# Altium integrated library Linear Technology Power Management LED Driver ICs.IntLib: 490 symbols (part 7 of 48)
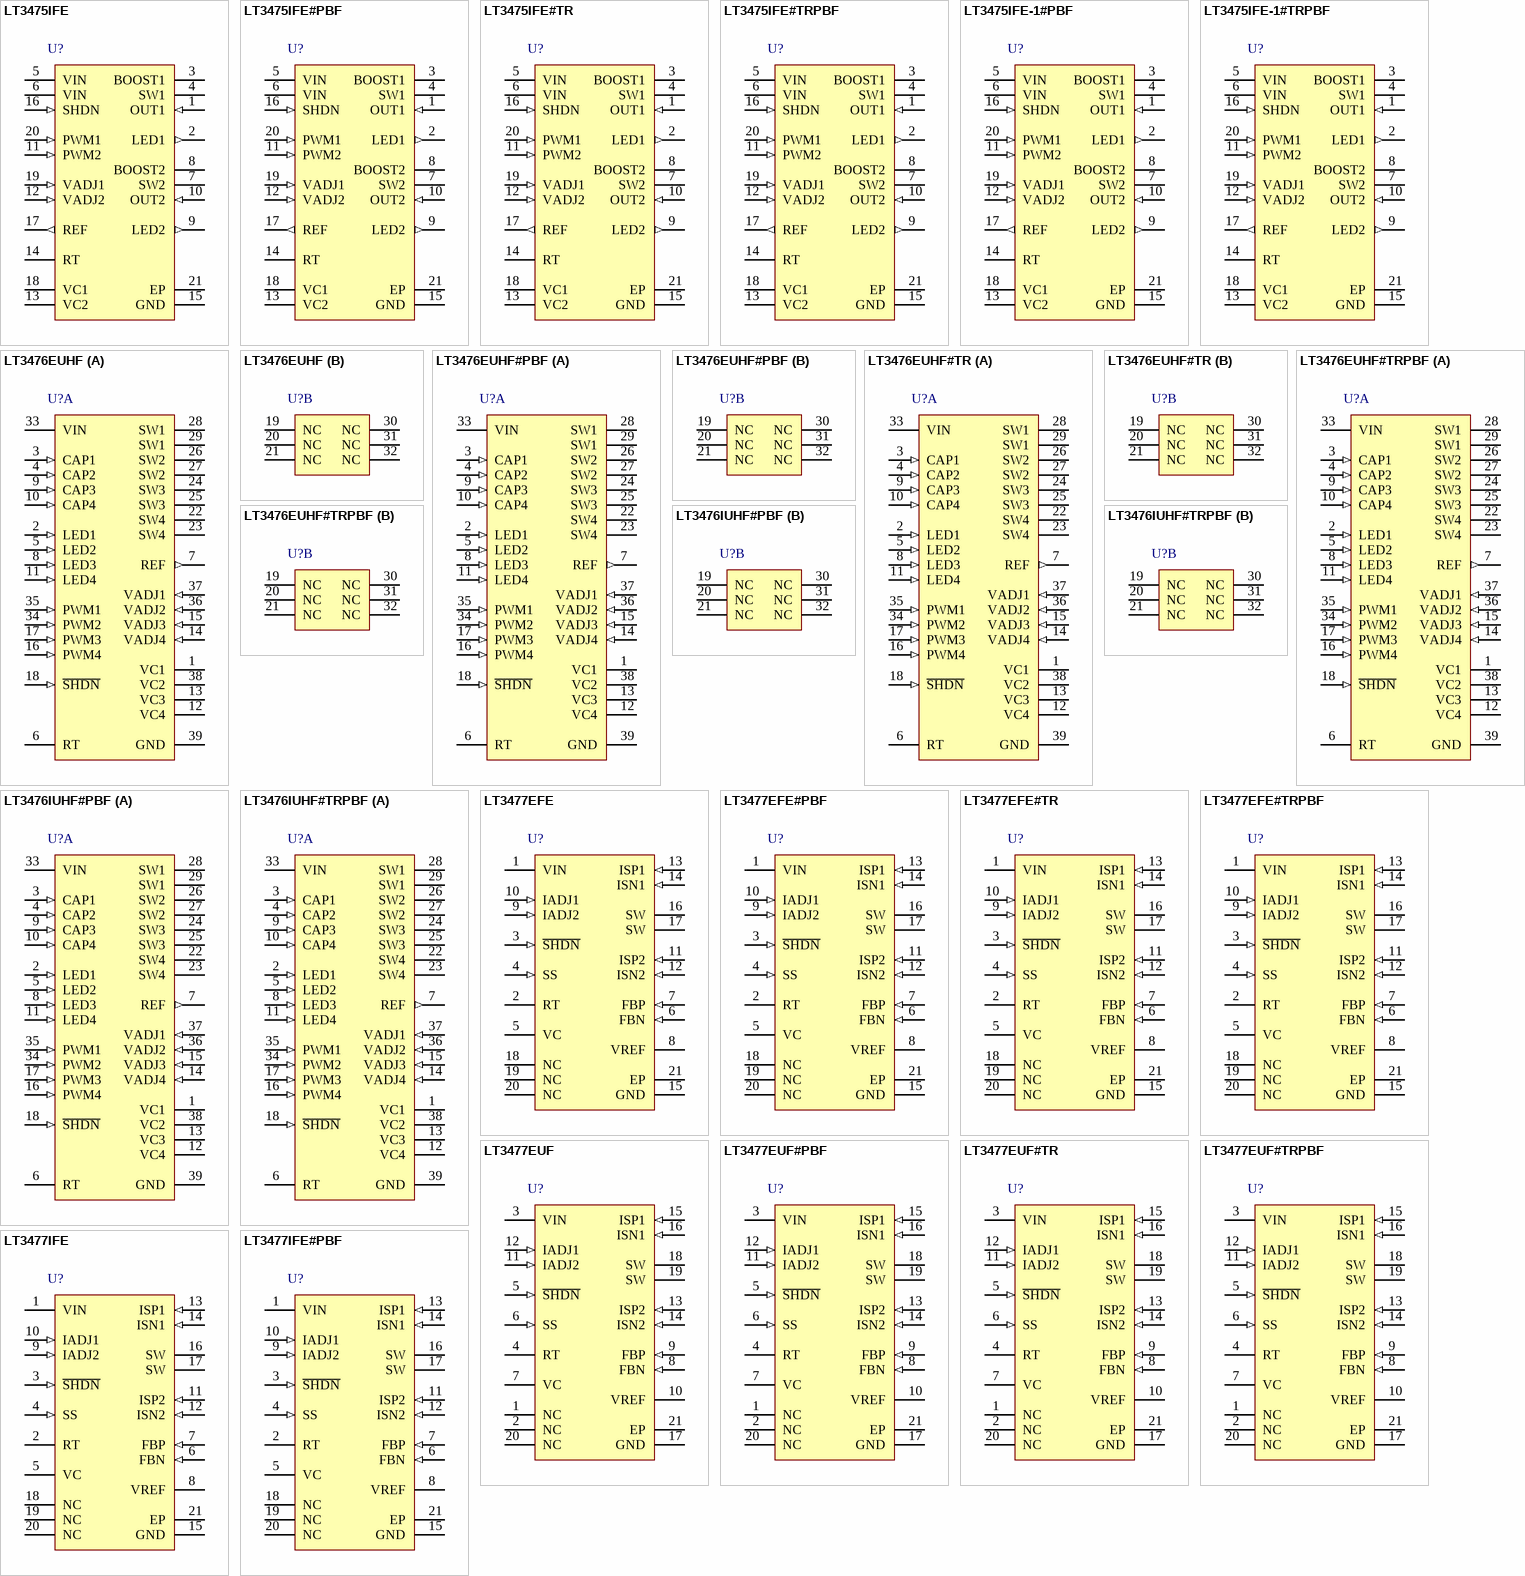
[diagram p26: symbols LT3475IFE to LT3477IFE#PBF]

## LT3477EFE#PBF
designator U?
3 A, DC/DC Converter with Dual Rail-to-Rail Current Sense, 2.3 to 25 V Vin, 40 V Vout MAX, 20-pin SOP (FE-20-EPV-CB), -40 to 85 degC, Pb-Free; Manufacturer: Linear Technology; PartNumber: LT3477EFE#PBF; Topology: Buck, Boost, Buck-Boost; Vin Min(V): 2.3; DatasheetVersion: Rev. C; PackageVersion: Rev. I, 05/2011; PackageReference: FE-20; PackageDescription: 20-Pin Plastic TSSOP, Body 6.5 x 4.4 mm, Pitch 0.65 mm; Supplier 1: Digi-Key; Supplier Part Number 1: LT3477EFE#PBF-ND; Supplier 2: Newark; Supplier Part Number 2: 57M8310; RoHS: TRUE; Mounting Technology: Surface Mount; ComponentLink1Description: Manufacturer URL; ComponentLink1URL: http://www.linear.com/; ComponentLink2Description: Datasheet; ComponentLink2URL: http://cds.linear.com/docs/en/datasheet/3477fc.pdf; ComponentLink3Description: Package Specification; ComponentLink3URL: http://cds.linear.com/docs/en/packaging/05081663__J_FE20(CB).pdf
footprint LT-FE-20-EPV-CB_N (SOP, 20-Leads, Body 6.6x4.5mm, Pitch 0.65mm, Thermal Pad 3.86x2.74mm, IPC Medium Density)
footprint LT-FE-20-EPV-CB_L (SOP, 20-Leads, Body 6.6x4.5mm, Pitch 0.65mm, Thermal Pad 3.86x2.74mm, IPC High Density)
footprint LT-FE-20-EPV-CB_M (SOP, 20-Leads, Body 6.6x4.5mm, Pitch 0.65mm, Thermal Pad 3.86x2.74mm, IPC Low Density)
pins: 1 VIN (power) "Input Supply. Must be locally bypassed. Powers the internal control circuitry.", 2 RT "Timing Resistor Pin. Adjusts the switching frequency. Connect a 17.2k resistor between RT and GND for a 1MHz switching frequency. Do not leave this pin open. See Table 4 for additional RT values and switching frequencies.", 3 ~{SHDN} (in) "Shutdown. Tie to 2V or greater to enable the device. Tie below 0.3V to turn off the device", 4 SS (in) "Soft-Start. Place a soft-start capacitor here. Leave floating if not in use.", 5 VC "Compensation Pin for Error Amplifier. Connect a series RC from this pin to GND. Typical values are 1kohm and 4.7nF.", 6 FBN (in) "The Inverting Input to the Error Amplifier. Connect resistive divider tap here for positive output voltage.", 7 FBP (in) "The Noninverting Input to the Error Amplifier. Connect resistive divider tap here for negative output voltage", 8 VREF "Bandgap Voltage Reference. Internally set to 1.235V. Connect this pin to FBP if generating a positive output or to an external resistor divider if generating a negative voltage. This pin can provide up  to 100uA of current (See Datasheet)", 9 IADJ2 (in) "Second Current Sense Adjustment. Setting IADJ2 to be less than 625mV leads to adjustment of the sensed voltage of the second current sense amplifier linearly. If IADJ2 is tied to higher than 650mV, the default current sense (See Datasheet)", 10 IADJ1 (in) "First Current Sense Adjustment. Setting IADJ1 to be less than 625mV leads to adjustment of the sensed voltage of the first current sense amplifier linearly. If IADJ1 is tied to higher than 650mV, the default current sense (See Datasheet)", 11 ISP2 (in) "Second Current Sense (+) Pin. The noninverting input to the second current sense amplifier. Connect to ISN2 if not used.", 12 ISN2 (in) "Second Current Sense (-) Pin. The inverting input to the second current sense amplifier. Connect to ISP2 if not used.", 13 ISP1 (in) "First Current Sense (+) Pin. The noninverting input to the first current sense amplifier. Connect to ISN1 if not used.", 14 ISN1 (in) "First Current Sense (-) Pin. The inverting input to the first current sense amplifier. Connect to ISP1 if not used.", 15 GND (power) "Ground. Tie directly to local ground plane.", 16 SW (power) "Switch Pins. Collector of the internal NPN power switch. Connect the inductor and diode here and minimize the metal trace area connected to this pin to minimize electromagnetic interference.", 17 SW (power) "Switch Pins. Collector of the internal NPN power switch. Connect the inductor and diode here and minimize the metal trace area connected to this pin to minimize electromagnetic interference.", 18 NC "No Connect Pin. Okay to connect to ground or VIN, or to float.", 19 NC "No Connect Pin. Okay to connect to ground or VIN, or to float.", 20 NC "No Connect Pin. Okay to connect to ground or VIN, or to float.", 21 EP (power) "Power Ground. Must be soldered to PCB ground for electrical contact and rated thermal performance."

## LT3477EFE#TR
designator U?
3 A, DC/DC Converter with Dual Rail-to-Rail Current Sense, 2.3 to 25 V Vin, 40 V Vout MAX, 20-pin SOP (FE-20-EPV-CB), -40 to 85 degC, Tape and Reel; Manufacturer: Linear Technology; PartNumber: LT3477EFE#TR; Topology: Buck, Boost, Buck-Boost; Vin Min(V): 2.3; DatasheetVersion: Rev. C; PackageVersion: Rev. I, 05/2011; PackageReference: FE-20; PackageDescription: 20-Pin Plastic TSSOP, Body 6.5 x 4.4 mm, Pitch 0.65 mm; Packing: Tape and Reel; RoHS: FALSE; Mounting Technology: Surface Mount; ComponentLink1Description: Manufacturer URL; ComponentLink1URL: http://www.linear.com/; ComponentLink2Description: Datasheet; ComponentLink2URL: http://cds.linear.com/docs/en/datasheet/3477fc.pdf; ComponentLink3Description: Package Specification; ComponentLink3URL: http://cds.linear.com/docs/en/packaging/05081663__J_FE20(CB).pdf
footprint LT-FE-20-EPV-CB_N (SOP, 20-Leads, Body 6.6x4.5mm, Pitch 0.65mm, Thermal Pad 3.86x2.74mm, IPC Medium Density)
footprint LT-FE-20-EPV-CB_L (SOP, 20-Leads, Body 6.6x4.5mm, Pitch 0.65mm, Thermal Pad 3.86x2.74mm, IPC High Density)
footprint LT-FE-20-EPV-CB_M (SOP, 20-Leads, Body 6.6x4.5mm, Pitch 0.65mm, Thermal Pad 3.86x2.74mm, IPC Low Density)
pins: 1 VIN (power) "Input Supply. Must be locally bypassed. Powers the internal control circuitry.", 2 RT "Timing Resistor Pin. Adjusts the switching frequency. Connect a 17.2k resistor between RT and GND for a 1MHz switching frequency. Do not leave this pin open. See Table 4 for additional RT values and switching frequencies.", 3 ~{SHDN} (in) "Shutdown. Tie to 2V or greater to enable the device. Tie below 0.3V to turn off the device", 4 SS (in) "Soft-Start. Place a soft-start capacitor here. Leave floating if not in use.", 5 VC "Compensation Pin for Error Amplifier. Connect a series RC from this pin to GND. Typical values are 1kohm and 4.7nF.", 6 FBN (in) "The Inverting Input to the Error Amplifier. Connect resistive divider tap here for positive output voltage.", 7 FBP (in) "The Noninverting Input to the Error Amplifier. Connect resistive divider tap here for negative output voltage", 8 VREF "Bandgap Voltage Reference. Internally set to 1.235V. Connect this pin to FBP if generating a positive output or to an external resistor divider if generating a negative voltage. This pin can provide up  to 100uA of current (See Datasheet)", 9 IADJ2 (in) "Second Current Sense Adjustment. Setting IADJ2 to be less than 625mV leads to adjustment of the sensed voltage of the second current sense amplifier linearly. If IADJ2 is tied to higher than 650mV, the default current sense (See Datasheet)", 10 IADJ1 (in) "First Current Sense Adjustment. Setting IADJ1 to be less than 625mV leads to adjustment of the sensed voltage of the first current sense amplifier linearly. If IADJ1 is tied to higher than 650mV, the default current sense (See Datasheet)", 11 ISP2 (in) "Second Current Sense (+) Pin. The noninverting input to the second current sense amplifier. Connect to ISN2 if not used.", 12 ISN2 (in) "Second Current Sense (-) Pin. The inverting input to the second current sense amplifier. Connect to ISP2 if not used.", 13 ISP1 (in) "First Current Sense (+) Pin. The noninverting input to the first current sense amplifier. Connect to ISN1 if not used.", 14 ISN1 (in) "First Current Sense (-) Pin. The inverting input to the first current sense amplifier. Connect to ISP1 if not used.", 15 GND (power) "Ground. Tie directly to local ground plane.", 16 SW (power) "Switch Pins. Collector of the internal NPN power switch. Connect the inductor and diode here and minimize the metal trace area connected to this pin to minimize electromagnetic interference.", 17 SW (power) "Switch Pins. Collector of the internal NPN power switch. Connect the inductor and diode here and minimize the metal trace area connected to this pin to minimize electromagnetic interference.", 18 NC "No Connect Pin. Okay to connect to ground or VIN, or to float.", 19 NC "No Connect Pin. Okay to connect to ground or VIN, or to float.", 20 NC "No Connect Pin. Okay to connect to ground or VIN, or to float.", 21 EP (power) "Power Ground. Must be soldered to PCB ground for electrical contact and rated thermal performance."

## LT3477EFE#TRPBF
designator U?
3 A, DC/DC Converter with Dual Rail-to-Rail Current Sense, 2.3 to 25 V Vin, 40 V Vout MAX, 20-pin SOP (FE-20-EPV-CB), -40 to 85 degC, Pb-Free, Tape and Reel; Manufacturer: Linear Technology; PartNumber: LT3477EFE#TRPBF; Topology: Buck, Boost, Buck-Boost; Vin Min(V): 2.3; DatasheetVersion: Rev. C; PackageVersion: Rev. I, 05/2011; PackageReference: FE-20; PackageDescription: 20-Pin Plastic TSSOP, Body 6.5 x 4.4 mm, Pitch 0.65 mm; Supplier 1: Digi-Key; Supplier Part Number 1: LT3477EFE#TRPBF-ND; Supplier 2: Newark; Supplier Part Number 2: 57M8312; Packing: Tape and Reel; RoHS: TRUE; Mounting Technology: Surface Mount; ComponentLink1Description: Manufacturer URL; ComponentLink1URL: http://www.linear.com/; ComponentLink2Description: Datasheet; ComponentLink2URL: http://cds.linear.com/docs/en/datasheet/3477fc.pdf; ComponentLink3Description: Package Specification; ComponentLink3URL: http://cds.linear.com/docs/en/packaging/05081663__J_FE20(CB).pdf
footprint LT-FE-20-EPV-CB_N (SOP, 20-Leads, Body 6.6x4.5mm, Pitch 0.65mm, Thermal Pad 3.86x2.74mm, IPC Medium Density)
footprint LT-FE-20-EPV-CB_L (SOP, 20-Leads, Body 6.6x4.5mm, Pitch 0.65mm, Thermal Pad 3.86x2.74mm, IPC High Density)
footprint LT-FE-20-EPV-CB_M (SOP, 20-Leads, Body 6.6x4.5mm, Pitch 0.65mm, Thermal Pad 3.86x2.74mm, IPC Low Density)
pins: 1 VIN (power) "Input Supply. Must be locally bypassed. Powers the internal control circuitry.", 2 RT "Timing Resistor Pin. Adjusts the switching frequency. Connect a 17.2k resistor between RT and GND for a 1MHz switching frequency. Do not leave this pin open. See Table 4 for additional RT values and switching frequencies.", 3 ~{SHDN} (in) "Shutdown. Tie to 2V or greater to enable the device. Tie below 0.3V to turn off the device", 4 SS (in) "Soft-Start. Place a soft-start capacitor here. Leave floating if not in use.", 5 VC "Compensation Pin for Error Amplifier. Connect a series RC from this pin to GND. Typical values are 1kohm and 4.7nF.", 6 FBN (in) "The Inverting Input to the Error Amplifier. Connect resistive divider tap here for positive output voltage.", 7 FBP (in) "The Noninverting Input to the Error Amplifier. Connect resistive divider tap here for negative output voltage", 8 VREF "Bandgap Voltage Reference. Internally set to 1.235V. Connect this pin to FBP if generating a positive output or to an external resistor divider if generating a negative voltage. This pin can provide up  to 100uA of current (See Datasheet)", 9 IADJ2 (in) "Second Current Sense Adjustment. Setting IADJ2 to be less than 625mV leads to adjustment of the sensed voltage of the second current sense amplifier linearly. If IADJ2 is tied to higher than 650mV, the default current sense (See Datasheet)", 10 IADJ1 (in) "First Current Sense Adjustment. Setting IADJ1 to be less than 625mV leads to adjustment of the sensed voltage of the first current sense amplifier linearly. If IADJ1 is tied to higher than 650mV, the default current sense (See Datasheet)", 11 ISP2 (in) "Second Current Sense (+) Pin. The noninverting input to the second current sense amplifier. Connect to ISN2 if not used.", 12 ISN2 (in) "Second Current Sense (-) Pin. The inverting input to the second current sense amplifier. Connect to ISP2 if not used.", 13 ISP1 (in) "First Current Sense (+) Pin. The noninverting input to the first current sense amplifier. Connect to ISN1 if not used.", 14 ISN1 (in) "First Current Sense (-) Pin. The inverting input to the first current sense amplifier. Connect to ISP1 if not used.", 15 GND (power) "Ground. Tie directly to local ground plane.", 16 SW (power) "Switch Pins. Collector of the internal NPN power switch. Connect the inductor and diode here and minimize the metal trace area connected to this pin to minimize electromagnetic interference.", 17 SW (power) "Switch Pins. Collector of the internal NPN power switch. Connect the inductor and diode here and minimize the metal trace area connected to this pin to minimize electromagnetic interference.", 18 NC "No Connect Pin. Okay to connect to ground or VIN, or to float.", 19 NC "No Connect Pin. Okay to connect to ground or VIN, or to float.", 20 NC "No Connect Pin. Okay to connect to ground or VIN, or to float.", 21 EP (power) "Power Ground. Must be soldered to PCB ground for electrical contact and rated thermal performance."

## LT3477EUF
designator U?
3 A, DC/DC Converter with Dual Rail-to-Rail Current Sense, 2.3 to 25 V Vin, 40 V Vout MAX, 20-pin QFN (UF20), -40 to 85 degC; Manufacturer: Linear Technology; PartNumber: LT3477EUF; Topology: Buck, Boost, Buck-Boost; Vin Min(V): 2.3; DatasheetVersion: Rev. C; PackageVersion: Rev. A, 10/2010; PackageReference: UF20; PackageDescription: 20-Pin Plastic QFN, Body 4 x 4 mm, Pitch 0.5 mm; RoHS: FALSE; Mounting Technology: Surface Mount; Code_JEDEC: MO-220; ComponentLink1Description: Manufacturer URL; ComponentLink1URL: http://www.linear.com/; ComponentLink2Description: Datasheet; ComponentLink2URL: http://cds.linear.com/docs/en/datasheet/3477fc.pdf; ComponentLink3Description: Package Specification; ComponentLink3URL: http://cds.linear.com/docs/en/packaging/QFN_20_05-08-1710.pdf
footprint LT-UF-20_N (QFN, 20-Leads, Body 4.1x4.1mm, Pitch 0.5mm, Thermal Pad 2.45x2.45mm, IPC Medium Density)
footprint LT-UF-20_L (QFN, 20-Leads, Body 4.1x4.1mm, Pitch 0.5mm, Thermal Pad 2.45x2.45mm, IPC High Density)
footprint LT-UF-20_M (QFN, 20-Leads, Body 4.1x4.1mm, Pitch 0.5mm, Thermal Pad 2.45x2.45mm, IPC Low Density)
pins: 1 NC "No Connect Pin. Okay to connect to ground or VIN, or to float.", 2 NC "No Connect Pin. Okay to connect to ground or VIN, or to float.", 3 VIN (power) "Input Supply. Must be locally bypassed. Powers the internal control circuitry.", 4 RT "Timing Resistor Pin. Adjusts the switching frequency. Connect a 17.2k resistor between RT and GND for a 1MHz switching frequency. Do not leave this pin open. See Table 4 for additional RT values and switching frequencies.", 5 ~{SHDN} (in) "Shutdown. Tie to 2V or greater to enable the device. Tie below 0.3V to turn off the device", 6 SS (in) "Soft-Start. Place a soft-start capacitor here. Leave floating if not in use.", 7 VC "Compensation Pin for Error Amplifier. Connect a series RC from this pin to GND. Typical values are 1kohm and 4.7nF.", 8 FBN (in) "The Inverting Input to the Error Amplifier. Connect resistive divider tap here for positive output voltage.", 9 FBP (in) "The Noninverting Input to the Error Amplifier. Connect resistive divider tap here for negative output voltage", 10 VREF "Bandgap Voltage Reference. Internally set to 1.235V. Connect this pin to FBP if generating a positive output or to an external resistor divider if generating a negative voltage. This pin can provide up  to 100uA of current (See Datasheet)", 11 IADJ2 (in) "Second Current Sense Adjustment. Setting IADJ2 to be less than 625mV leads to adjustment of the sensed voltage of the second current sense amplifier linearly. If IADJ2 is tied to higher than 650mV, the default current sense (See Datasheet)", 12 IADJ1 (in) "First Current Sense Adjustment. Setting IADJ1 to be less than 625mV leads to adjustment of the sensed voltage of the first current sense amplifier linearly. If IADJ1 is tied to higher than 650mV, the default current sense (See Datasheet)", 13 ISP2 (in) "Second Current Sense (+) Pin. The noninverting input to the second current sense amplifier. Connect to ISN2 if not used.", 14 ISN2 (in) "Second Current Sense (-) Pin. The inverting input to the second current sense amplifier. Connect to ISP2 if not used.", 15 ISP1 (in) "First Current Sense (+) Pin. The noninverting input to the first current sense amplifier. Connect to ISN1 if not used.", 16 ISN1 (in) "First Current Sense (-) Pin. The inverting input to the first current sense amplifier. Connect to ISP1 if not used.", 17 GND (power) "Ground. Tie directly to local ground plane.", 18 SW (power) "Switch Pins. Collector of the internal NPN power switch. Connect the inductor and diode here and minimize the metal trace area connected to this pin to minimize electromagnetic interference.", 19 SW (power) "Switch Pins. Collector of the internal NPN power switch. Connect the inductor and diode here and minimize the metal trace area connected to this pin to minimize electromagnetic interference.", 20 NC "No Connect Pin. Okay to connect to ground or VIN, or to float.", 21 EP (power) "Power Ground. Must be soldered to PCB ground for electrical contact and rated thermal performance."

## LT3477EUF#PBF
designator U?
3 A, DC/DC Converter with Dual Rail-to-Rail Current Sense, 2.3 to 25 V Vin, 40 V Vout MAX, 20-pin QFN (UF20), -40 to 85 degC, Pb-Free; Manufacturer: Linear Technology; PartNumber: LT3477EUF#PBF; Topology: Buck, Boost, Buck-Boost; Vin Min(V): 2.3; DatasheetVersion: Rev. C; PackageVersion: Rev. A, 10/2010; PackageReference: UF20; PackageDescription: 20-Pin Plastic QFN, Body 4 x 4 mm, Pitch 0.5 mm; Supplier 1: Digi-Key; Supplier Part Number 1: LT3477EUF#PBF-ND; Supplier 2: Farnell; Supplier Part Number 2: 2294906; Supplier 3: Newark; Supplier Part Number 3: 57M8314; RoHS: TRUE; Mounting Technology: Surface Mount; Code_JEDEC: MO-220; ComponentLink1Description: Manufacturer URL; ComponentLink1URL: http://www.linear.com/; ComponentLink2Description: Datasheet; ComponentLink2URL: http://cds.linear.com/docs/en/datasheet/3477fc.pdf; ComponentLink3Description: Package Specification; ComponentLink3URL: http://cds.linear.com/docs/en/packaging/QFN_20_05-08-1710.pdf
footprint LT-UF-20_N (QFN, 20-Leads, Body 4.1x4.1mm, Pitch 0.5mm, Thermal Pad 2.45x2.45mm, IPC Medium Density)
footprint LT-UF-20_L (QFN, 20-Leads, Body 4.1x4.1mm, Pitch 0.5mm, Thermal Pad 2.45x2.45mm, IPC High Density)
footprint LT-UF-20_M (QFN, 20-Leads, Body 4.1x4.1mm, Pitch 0.5mm, Thermal Pad 2.45x2.45mm, IPC Low Density)
pins: 1 NC "No Connect Pin. Okay to connect to ground or VIN, or to float.", 2 NC "No Connect Pin. Okay to connect to ground or VIN, or to float.", 3 VIN (power) "Input Supply. Must be locally bypassed. Powers the internal control circuitry.", 4 RT "Timing Resistor Pin. Adjusts the switching frequency. Connect a 17.2k resistor between RT and GND for a 1MHz switching frequency. Do not leave this pin open. See Table 4 for additional RT values and switching frequencies.", 5 ~{SHDN} (in) "Shutdown. Tie to 2V or greater to enable the device. Tie below 0.3V to turn off the device", 6 SS (in) "Soft-Start. Place a soft-start capacitor here. Leave floating if not in use.", 7 VC "Compensation Pin for Error Amplifier. Connect a series RC from this pin to GND. Typical values are 1kohm and 4.7nF.", 8 FBN (in) "The Inverting Input to the Error Amplifier. Connect resistive divider tap here for positive output voltage.", 9 FBP (in) "The Noninverting Input to the Error Amplifier. Connect resistive divider tap here for negative output voltage", 10 VREF "Bandgap Voltage Reference. Internally set to 1.235V. Connect this pin to FBP if generating a positive output or to an external resistor divider if generating a negative voltage. This pin can provide up  to 100uA of current (See Datasheet)", 11 IADJ2 (in) "Second Current Sense Adjustment. Setting IADJ2 to be less than 625mV leads to adjustment of the sensed voltage of the second current sense amplifier linearly. If IADJ2 is tied to higher than 650mV, the default current sense (See Datasheet)", 12 IADJ1 (in) "First Current Sense Adjustment. Setting IADJ1 to be less than 625mV leads to adjustment of the sensed voltage of the first current sense amplifier linearly. If IADJ1 is tied to higher than 650mV, the default current sense (See Datasheet)", 13 ISP2 (in) "Second Current Sense (+) Pin. The noninverting input to the second current sense amplifier. Connect to ISN2 if not used.", 14 ISN2 (in) "Second Current Sense (-) Pin. The inverting input to the second current sense amplifier. Connect to ISP2 if not used.", 15 ISP1 (in) "First Current Sense (+) Pin. The noninverting input to the first current sense amplifier. Connect to ISN1 if not used.", 16 ISN1 (in) "First Current Sense (-) Pin. The inverting input to the first current sense amplifier. Connect to ISP1 if not used.", 17 GND (power) "Ground. Tie directly to local ground plane.", 18 SW (power) "Switch Pins. Collector of the internal NPN power switch. Connect the inductor and diode here and minimize the metal trace area connected to this pin to minimize electromagnetic interference.", 19 SW (power) "Switch Pins. Collector of the internal NPN power switch. Connect the inductor and diode here and minimize the metal trace area connected to this pin to minimize electromagnetic interference.", 20 NC "No Connect Pin. Okay to connect to ground or VIN, or to float.", 21 EP (power) "Power Ground. Must be soldered to PCB ground for electrical contact and rated thermal performance."

## LT3477EUF#TR
designator U?
3 A, DC/DC Converter with Dual Rail-to-Rail Current Sense, 2.3 to 25 V Vin, 40 V Vout MAX, 20-pin QFN (UF20), -40 to 85 degC, Tape and Reel; Manufacturer: Linear Technology; PartNumber: LT3477EUF#TR; Topology: Buck, Boost, Buck-Boost; Vin Min(V): 2.3; DatasheetVersion: Rev. C; PackageVersion: Rev. A, 10/2010; PackageReference: UF20; PackageDescription: 20-Pin Plastic QFN, Body 4 x 4 mm, Pitch 0.5 mm; Packing: Tape and Reel; RoHS: FALSE; Mounting Technology: Surface Mount; Code_JEDEC: MO-220; ComponentLink1Description: Manufacturer URL; ComponentLink1URL: http://www.linear.com/; ComponentLink2Description: Datasheet; ComponentLink2URL: http://cds.linear.com/docs/en/datasheet/3477fc.pdf; ComponentLink3Description: Package Specification; ComponentLink3URL: http://cds.linear.com/docs/en/packaging/QFN_20_05-08-1710.pdf
footprint LT-UF-20_N (QFN, 20-Leads, Body 4.1x4.1mm, Pitch 0.5mm, Thermal Pad 2.45x2.45mm, IPC Medium Density)
footprint LT-UF-20_L (QFN, 20-Leads, Body 4.1x4.1mm, Pitch 0.5mm, Thermal Pad 2.45x2.45mm, IPC High Density)
footprint LT-UF-20_M (QFN, 20-Leads, Body 4.1x4.1mm, Pitch 0.5mm, Thermal Pad 2.45x2.45mm, IPC Low Density)
pins: 1 NC "No Connect Pin. Okay to connect to ground or VIN, or to float.", 2 NC "No Connect Pin. Okay to connect to ground or VIN, or to float.", 3 VIN (power) "Input Supply. Must be locally bypassed. Powers the internal control circuitry.", 4 RT "Timing Resistor Pin. Adjusts the switching frequency. Connect a 17.2k resistor between RT and GND for a 1MHz switching frequency. Do not leave this pin open. See Table 4 for additional RT values and switching frequencies.", 5 ~{SHDN} (in) "Shutdown. Tie to 2V or greater to enable the device. Tie below 0.3V to turn off the device", 6 SS (in) "Soft-Start. Place a soft-start capacitor here. Leave floating if not in use.", 7 VC "Compensation Pin for Error Amplifier. Connect a series RC from this pin to GND. Typical values are 1kohm and 4.7nF.", 8 FBN (in) "The Inverting Input to the Error Amplifier. Connect resistive divider tap here for positive output voltage.", 9 FBP (in) "The Noninverting Input to the Error Amplifier. Connect resistive divider tap here for negative output voltage", 10 VREF "Bandgap Voltage Reference. Internally set to 1.235V. Connect this pin to FBP if generating a positive output or to an external resistor divider if generating a negative voltage. This pin can provide up  to 100uA of current (See Datasheet)", 11 IADJ2 (in) "Second Current Sense Adjustment. Setting IADJ2 to be less than 625mV leads to adjustment of the sensed voltage of the second current sense amplifier linearly. If IADJ2 is tied to higher than 650mV, the default current sense (See Datasheet)", 12 IADJ1 (in) "First Current Sense Adjustment. Setting IADJ1 to be less than 625mV leads to adjustment of the sensed voltage of the first current sense amplifier linearly. If IADJ1 is tied to higher than 650mV, the default current sense (See Datasheet)", 13 ISP2 (in) "Second Current Sense (+) Pin. The noninverting input to the second current sense amplifier. Connect to ISN2 if not used.", 14 ISN2 (in) "Second Current Sense (-) Pin. The inverting input to the second current sense amplifier. Connect to ISP2 if not used.", 15 ISP1 (in) "First Current Sense (+) Pin. The noninverting input to the first current sense amplifier. Connect to ISN1 if not used.", 16 ISN1 (in) "First Current Sense (-) Pin. The inverting input to the first current sense amplifier. Connect to ISP1 if not used.", 17 GND (power) "Ground. Tie directly to local ground plane.", 18 SW (power) "Switch Pins. Collector of the internal NPN power switch. Connect the inductor and diode here and minimize the metal trace area connected to this pin to minimize electromagnetic interference.", 19 SW (power) "Switch Pins. Collector of the internal NPN power switch. Connect the inductor and diode here and minimize the metal trace area connected to this pin to minimize electromagnetic interference.", 20 NC "No Connect Pin. Okay to connect to ground or VIN, or to float.", 21 EP (power) "Power Ground. Must be soldered to PCB ground for electrical contact and rated thermal performance."

## LT3477EUF#TRPBF
designator U?
3 A, DC/DC Converter with Dual Rail-to-Rail Current Sense, 2.3 to 25 V Vin, 40 V Vout MAX, 20-pin QFN (UF20), -40 to 85 degC, Pb-Free, Tape and Reel; Manufacturer: Linear Technology; PartNumber: LT3477EUF#TRPBF; Topology: Buck, Boost, Buck-Boost; Vin Min(V): 2.3; DatasheetVersion: Rev. C; PackageVersion: Rev. A, 10/2010; PackageReference: UF20; PackageDescription: 20-Pin Plastic QFN, Body 4 x 4 mm, Pitch 0.5 mm; Supplier 1: Digi-Key; Supplier Part Number 1: LT3477EUF#TRPBF-ND; Supplier 2: Newark; Supplier Part Number 2: 57M8316; Packing: Tape and Reel; RoHS: TRUE; Mounting Technology: Surface Mount; Code_JEDEC: MO-220; ComponentLink1Description: Manufacturer URL; ComponentLink1URL: http://www.linear.com/; ComponentLink2Description: Datasheet; ComponentLink2URL: http://cds.linear.com/docs/en/datasheet/3477fc.pdf; ComponentLink3Description: Package Specification; ComponentLink3URL: http://cds.linear.com/docs/en/packaging/QFN_20_05-08-1710.pdf
footprint LT-UF-20_N (QFN, 20-Leads, Body 4.1x4.1mm, Pitch 0.5mm, Thermal Pad 2.45x2.45mm, IPC Medium Density)
footprint LT-UF-20_L (QFN, 20-Leads, Body 4.1x4.1mm, Pitch 0.5mm, Thermal Pad 2.45x2.45mm, IPC High Density)
footprint LT-UF-20_M (QFN, 20-Leads, Body 4.1x4.1mm, Pitch 0.5mm, Thermal Pad 2.45x2.45mm, IPC Low Density)
pins: 1 NC "No Connect Pin. Okay to connect to ground or VIN, or to float.", 2 NC "No Connect Pin. Okay to connect to ground or VIN, or to float.", 3 VIN (power) "Input Supply. Must be locally bypassed. Powers the internal control circuitry.", 4 RT "Timing Resistor Pin. Adjusts the switching frequency. Connect a 17.2k resistor between RT and GND for a 1MHz switching frequency. Do not leave this pin open. See Table 4 for additional RT values and switching frequencies.", 5 ~{SHDN} (in) "Shutdown. Tie to 2V or greater to enable the device. Tie below 0.3V to turn off the device", 6 SS (in) "Soft-Start. Place a soft-start capacitor here. Leave floating if not in use.", 7 VC "Compensation Pin for Error Amplifier. Connect a series RC from this pin to GND. Typical values are 1kohm and 4.7nF.", 8 FBN (in) "The Inverting Input to the Error Amplifier. Connect resistive divider tap here for positive output voltage.", 9 FBP (in) "The Noninverting Input to the Error Amplifier. Connect resistive divider tap here for negative output voltage", 10 VREF "Bandgap Voltage Reference. Internally set to 1.235V. Connect this pin to FBP if generating a positive output or to an external resistor divider if generating a negative voltage. This pin can provide up  to 100uA of current (See Datasheet)", 11 IADJ2 (in) "Second Current Sense Adjustment. Setting IADJ2 to be less than 625mV leads to adjustment of the sensed voltage of the second current sense amplifier linearly. If IADJ2 is tied to higher than 650mV, the default current sense (See Datasheet)", 12 IADJ1 (in) "First Current Sense Adjustment. Setting IADJ1 to be less than 625mV leads to adjustment of the sensed voltage of the first current sense amplifier linearly. If IADJ1 is tied to higher than 650mV, the default current sense (See Datasheet)", 13 ISP2 (in) "Second Current Sense (+) Pin. The noninverting input to the second current sense amplifier. Connect to ISN2 if not used.", 14 ISN2 (in) "Second Current Sense (-) Pin. The inverting input to the second current sense amplifier. Connect to ISP2 if not used.", 15 ISP1 (in) "First Current Sense (+) Pin. The noninverting input to the first current sense amplifier. Connect to ISN1 if not used.", 16 ISN1 (in) "First Current Sense (-) Pin. The inverting input to the first current sense amplifier. Connect to ISP1 if not used.", 17 GND (power) "Ground. Tie directly to local ground plane.", 18 SW (power) "Switch Pins. Collector of the internal NPN power switch. Connect the inductor and diode here and minimize the metal trace area connected to this pin to minimize electromagnetic interference.", 19 SW (power) "Switch Pins. Collector of the internal NPN power switch. Connect the inductor and diode here and minimize the metal trace area connected to this pin to minimize electromagnetic interference.", 20 NC "No Connect Pin. Okay to connect to ground or VIN, or to float.", 21 EP (power) "Power Ground. Must be soldered to PCB ground for electrical contact and rated thermal performance."

## LT3477IFE
designator U?
3 A, DC/DC Converter with Dual Rail-to-Rail Current Sense, 2.3 to 25 V Vin, 40 V Vout MAX, 20-pin SOP (FE-20-EPV-CB), -40 to 125 degC; Manufacturer: Linear Technology; PartNumber: LT3477IFE; Topology: Buck, Boost, Buck-Boost; Vin Min(V): 2.3; DatasheetVersion: Rev. C; PackageVersion: Rev. I, 05/2011; PackageReference: FE-20; PackageDescription: 20-Pin Plastic TSSOP, Body 6.5 x 4.4 mm, Pitch 0.65 mm; RoHS: FALSE; Mounting Technology: Surface Mount; ComponentLink1Description: Manufacturer URL; ComponentLink1URL: http://www.linear.com/; ComponentLink2Description: Datasheet; ComponentLink2URL: http://cds.linear.com/docs/en/datasheet/3477fc.pdf; ComponentLink3Description: Package Specification; ComponentLink3URL: http://cds.linear.com/docs/en/packaging/05081663__J_FE20(CB).pdf
footprint LT-FE-20-EPV-CB_N (SOP, 20-Leads, Body 6.6x4.5mm, Pitch 0.65mm, Thermal Pad 3.86x2.74mm, IPC Medium Density)
footprint LT-FE-20-EPV-CB_L (SOP, 20-Leads, Body 6.6x4.5mm, Pitch 0.65mm, Thermal Pad 3.86x2.74mm, IPC High Density)
footprint LT-FE-20-EPV-CB_M (SOP, 20-Leads, Body 6.6x4.5mm, Pitch 0.65mm, Thermal Pad 3.86x2.74mm, IPC Low Density)
pins: 1 VIN (power) "Input Supply. Must be locally bypassed. Powers the internal control circuitry.", 2 RT "Timing Resistor Pin. Adjusts the switching frequency. Connect a 17.2k resistor between RT and GND for a 1MHz switching frequency. Do not leave this pin open. See Table 4 for additional RT values and switching frequencies.", 3 ~{SHDN} (in) "Shutdown. Tie to 2V or greater to enable the device. Tie below 0.3V to turn off the device", 4 SS (in) "Soft-Start. Place a soft-start capacitor here. Leave floating if not in use.", 5 VC "Compensation Pin for Error Amplifier. Connect a series RC from this pin to GND. Typical values are 1kohm and 4.7nF.", 6 FBN (in) "The Inverting Input to the Error Amplifier. Connect resistive divider tap here for positive output voltage.", 7 FBP (in) "The Noninverting Input to the Error Amplifier. Connect resistive divider tap here for negative output voltage", 8 VREF "Bandgap Voltage Reference. Internally set to 1.235V. Connect this pin to FBP if generating a positive output or to an external resistor divider if generating a negative voltage. This pin can provide up  to 100uA of current (See Datasheet)", 9 IADJ2 (in) "Second Current Sense Adjustment. Setting IADJ2 to be less than 625mV leads to adjustment of the sensed voltage of the second current sense amplifier linearly. If IADJ2 is tied to higher than 650mV, the default current sense (See Datasheet)", 10 IADJ1 (in) "First Current Sense Adjustment. Setting IADJ1 to be less than 625mV leads to adjustment of the sensed voltage of the first current sense amplifier linearly. If IADJ1 is tied to higher than 650mV, the default current sense (See Datasheet)", 11 ISP2 (in) "Second Current Sense (+) Pin. The noninverting input to the second current sense amplifier. Connect to ISN2 if not used.", 12 ISN2 (in) "Second Current Sense (-) Pin. The inverting input to the second current sense amplifier. Connect to ISP2 if not used.", 13 ISP1 (in) "First Current Sense (+) Pin. The noninverting input to the first current sense amplifier. Connect to ISN1 if not used.", 14 ISN1 (in) "First Current Sense (-) Pin. The inverting input to the first current sense amplifier. Connect to ISP1 if not used.", 15 GND (power) "Ground. Tie directly to local ground plane.", 16 SW (power) "Switch Pins. Collector of the internal NPN power switch. Connect the inductor and diode here and minimize the metal trace area connected to this pin to minimize electromagnetic interference.", 17 SW (power) "Switch Pins. Collector of the internal NPN power switch. Connect the inductor and diode here and minimize the metal trace area connected to this pin to minimize electromagnetic interference.", 18 NC "No Connect Pin. Okay to connect to ground or VIN, or to float.", 19 NC "No Connect Pin. Okay to connect to ground or VIN, or to float.", 20 NC "No Connect Pin. Okay to connect to ground or VIN, or to float.", 21 EP (power) "Power Ground. Must be soldered to PCB ground for electrical contact and rated thermal performance."

## LT3477IFE#PBF
designator U?
3 A, DC/DC Converter with Dual Rail-to-Rail Current Sense, 2.3 to 25 V Vin, 40 V Vout MAX, 20-pin SOP (FE-20-EPV-CB), -40 to 125 degC, Pb-Free; Manufacturer: Linear Technology; PartNumber: LT3477IFE#PBF; Topology: Buck, Boost, Buck-Boost; Vin Min(V): 2.3; DatasheetVersion: Rev. C; PackageVersion: Rev. I, 05/2011; PackageReference: FE-20; PackageDescription: 20-Pin Plastic TSSOP, Body 6.5 x 4.4 mm, Pitch 0.65 mm; Supplier 1: Digi-Key; Supplier Part Number 1: LT3477IFE#PBF-ND; RoHS: TRUE; Mounting Technology: Surface Mount; ComponentLink1Description: Manufacturer URL; ComponentLink1URL: http://www.linear.com/; ComponentLink2Description: Datasheet; ComponentLink2URL: http://cds.linear.com/docs/en/datasheet/3477fc.pdf; ComponentLink3Description: Package Specification; ComponentLink3URL: http://cds.linear.com/docs/en/packaging/05081663__J_FE20(CB).pdf
footprint LT-FE-20-EPV-CB_N (SOP, 20-Leads, Body 6.6x4.5mm, Pitch 0.65mm, Thermal Pad 3.86x2.74mm, IPC Medium Density)
footprint LT-FE-20-EPV-CB_L (SOP, 20-Leads, Body 6.6x4.5mm, Pitch 0.65mm, Thermal Pad 3.86x2.74mm, IPC High Density)
footprint LT-FE-20-EPV-CB_M (SOP, 20-Leads, Body 6.6x4.5mm, Pitch 0.65mm, Thermal Pad 3.86x2.74mm, IPC Low Density)
pins: 1 VIN (power) "Input Supply. Must be locally bypassed. Powers the internal control circuitry.", 2 RT "Timing Resistor Pin. Adjusts the switching frequency. Connect a 17.2k resistor between RT and GND for a 1MHz switching frequency. Do not leave this pin open. See Table 4 for additional RT values and switching frequencies.", 3 ~{SHDN} (in) "Shutdown. Tie to 2V or greater to enable the device. Tie below 0.3V to turn off the device", 4 SS (in) "Soft-Start. Place a soft-start capacitor here. Leave floating if not in use.", 5 VC "Compensation Pin for Error Amplifier. Connect a series RC from this pin to GND. Typical values are 1kohm and 4.7nF.", 6 FBN (in) "The Inverting Input to the Error Amplifier. Connect resistive divider tap here for positive output voltage.", 7 FBP (in) "The Noninverting Input to the Error Amplifier. Connect resistive divider tap here for negative output voltage", 8 VREF "Bandgap Voltage Reference. Internally set to 1.235V. Connect this pin to FBP if generating a positive output or to an external resistor divider if generating a negative voltage. This pin can provide up  to 100uA of current (See Datasheet)", 9 IADJ2 (in) "Second Current Sense Adjustment. Setting IADJ2 to be less than 625mV leads to adjustment of the sensed voltage of the second current sense amplifier linearly. If IADJ2 is tied to higher than 650mV, the default current sense (See Datasheet)", 10 IADJ1 (in) "First Current Sense Adjustment. Setting IADJ1 to be less than 625mV leads to adjustment of the sensed voltage of the first current sense amplifier linearly. If IADJ1 is tied to higher than 650mV, the default current sense (See Datasheet)", 11 ISP2 (in) "Second Current Sense (+) Pin. The noninverting input to the second current sense amplifier. Connect to ISN2 if not used.", 12 ISN2 (in) "Second Current Sense (-) Pin. The inverting input to the second current sense amplifier. Connect to ISP2 if not used.", 13 ISP1 (in) "First Current Sense (+) Pin. The noninverting input to the first current sense amplifier. Connect to ISN1 if not used.", 14 ISN1 (in) "First Current Sense (-) Pin. The inverting input to the first current sense amplifier. Connect to ISP1 if not used.", 15 GND (power) "Ground. Tie directly to local ground plane.", 16 SW (power) "Switch Pins. Collector of the internal NPN power switch. Connect the inductor and diode here and minimize the metal trace area connected to this pin to minimize electromagnetic interference.", 17 SW (power) "Switch Pins. Collector of the internal NPN power switch. Connect the inductor and diode here and minimize the metal trace area connected to this pin to minimize electromagnetic interference.", 18 NC "No Connect Pin. Okay to connect to ground or VIN, or to float.", 19 NC "No Connect Pin. Okay to connect to ground or VIN, or to float.", 20 NC "No Connect Pin. Okay to connect to ground or VIN, or to float.", 21 EP (power) "Power Ground. Must be soldered to PCB ground for electrical contact and rated thermal performance."

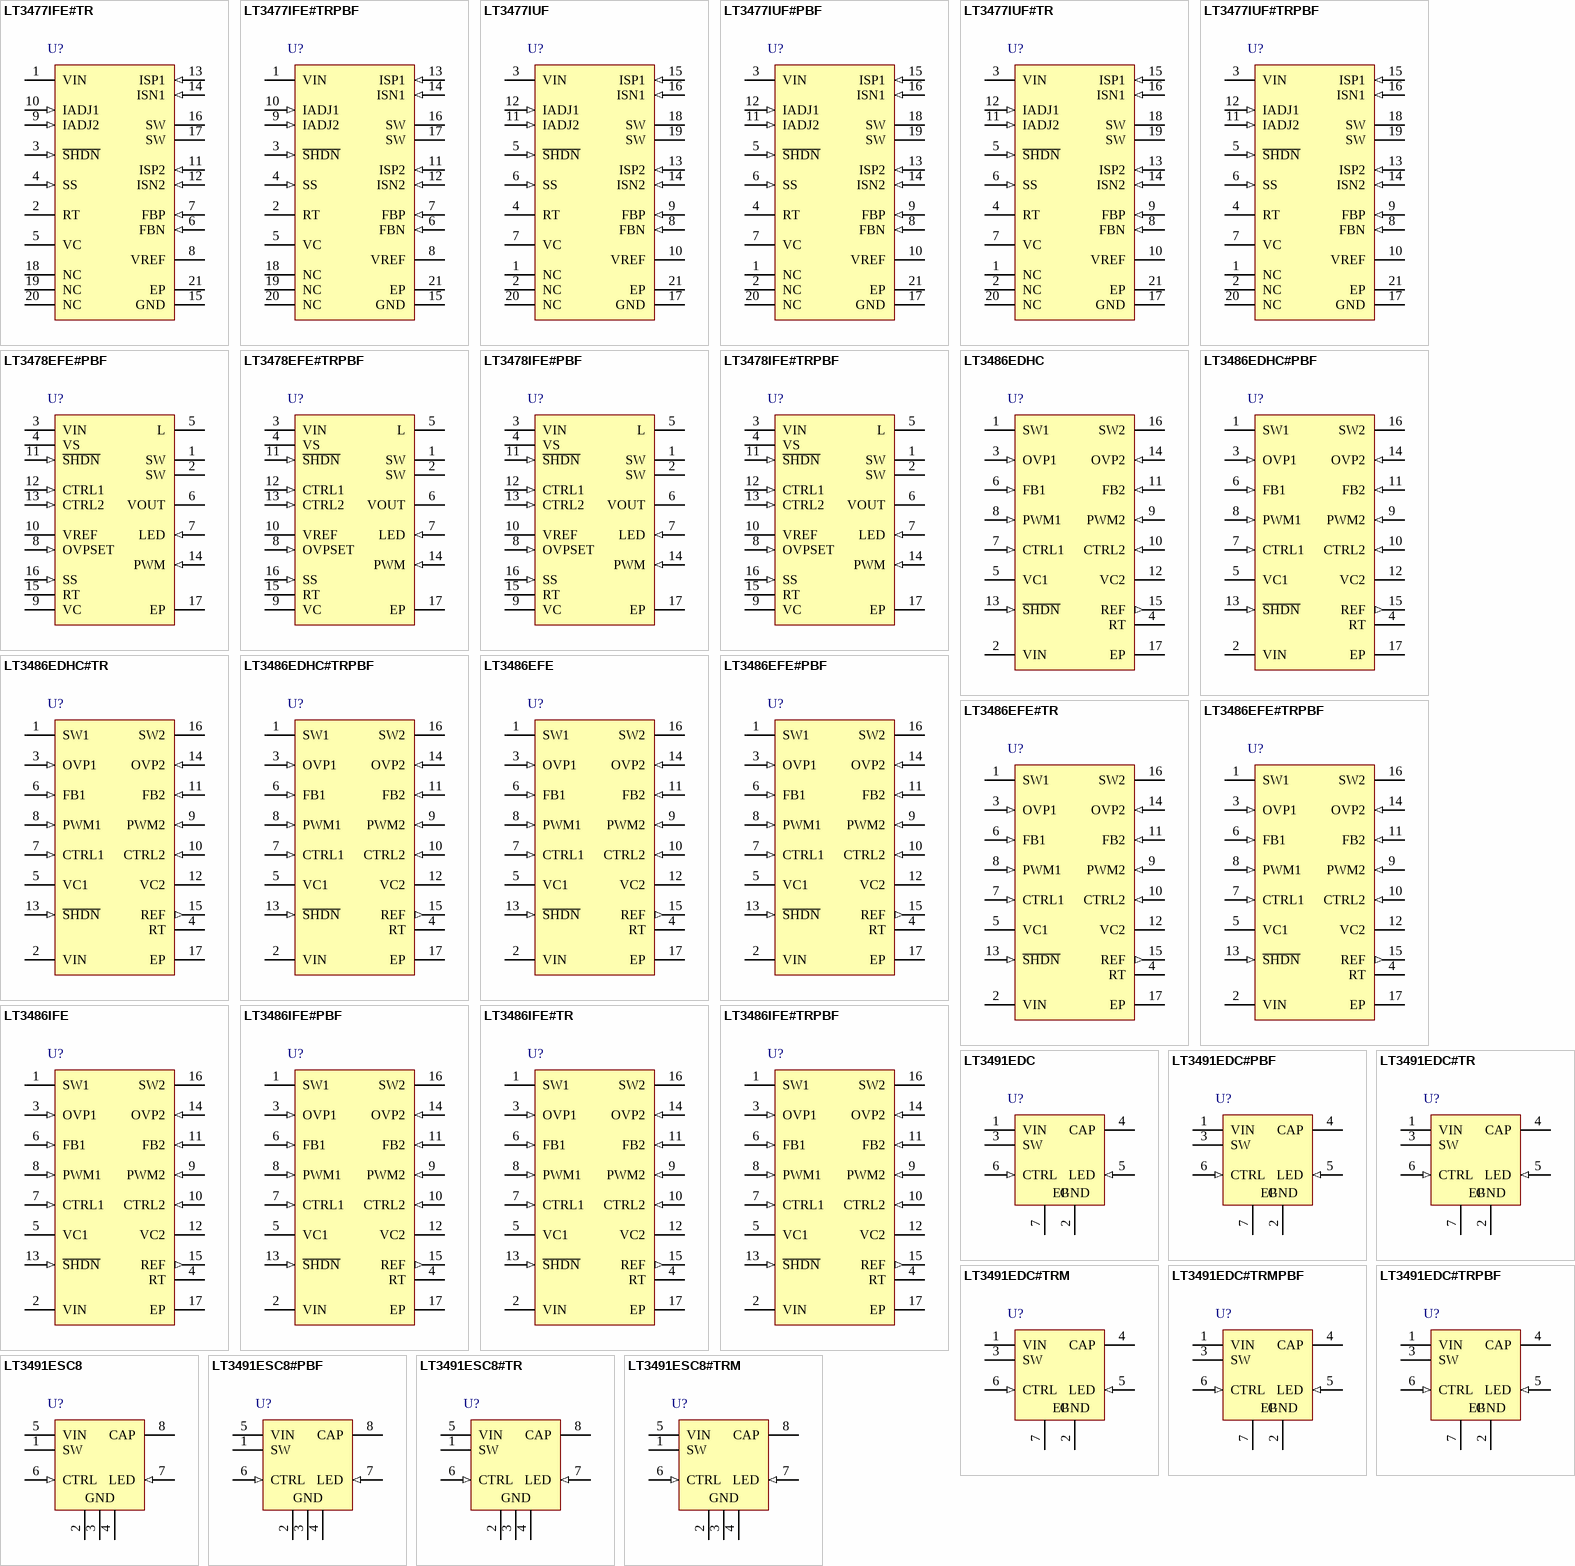
[diagram p3: symbols LT3477IFE#TR to LT3491ESC8#TRM]

## LT3477IFE#TR
designator U?
3 A, DC/DC Converter with Dual Rail-to-Rail Current Sense, 2.3 to 25 V Vin, 40 V Vout MAX, 20-pin SOP (FE-20-EPV-CB), -40 to 125 degC, Tape and Reel; Manufacturer: Linear Technology; PartNumber: LT3477IFE#TR; Topology: Buck, Boost, Buck-Boost; Vin Min(V): 2.3; DatasheetVersion: Rev. C; PackageVersion: Rev. I, 05/2011; PackageReference: FE-20; PackageDescription: 20-Pin Plastic TSSOP, Body 6.5 x 4.4 mm, Pitch 0.65 mm; Packing: Tape and Reel; RoHS: FALSE; Mounting Technology: Surface Mount; ComponentLink1Description: Manufacturer URL; ComponentLink1URL: http://www.linear.com/; ComponentLink2Description: Datasheet; ComponentLink2URL: http://cds.linear.com/docs/en/datasheet/3477fc.pdf; ComponentLink3Description: Package Specification; ComponentLink3URL: http://cds.linear.com/docs/en/packaging/05081663__J_FE20(CB).pdf
footprint LT-FE-20-EPV-CB_N (SOP, 20-Leads, Body 6.6x4.5mm, Pitch 0.65mm, Thermal Pad 3.86x2.74mm, IPC Medium Density)
footprint LT-FE-20-EPV-CB_L (SOP, 20-Leads, Body 6.6x4.5mm, Pitch 0.65mm, Thermal Pad 3.86x2.74mm, IPC High Density)
footprint LT-FE-20-EPV-CB_M (SOP, 20-Leads, Body 6.6x4.5mm, Pitch 0.65mm, Thermal Pad 3.86x2.74mm, IPC Low Density)
pins: 1 VIN (power) "Input Supply. Must be locally bypassed. Powers the internal control circuitry.", 2 RT "Timing Resistor Pin. Adjusts the switching frequency. Connect a 17.2k resistor between RT and GND for a 1MHz switching frequency. Do not leave this pin open. See Table 4 for additional RT values and switching frequencies.", 3 ~{SHDN} (in) "Shutdown. Tie to 2V or greater to enable the device. Tie below 0.3V to turn off the device", 4 SS (in) "Soft-Start. Place a soft-start capacitor here. Leave floating if not in use.", 5 VC "Compensation Pin for Error Amplifier. Connect a series RC from this pin to GND. Typical values are 1kohm and 4.7nF.", 6 FBN (in) "The Inverting Input to the Error Amplifier. Connect resistive divider tap here for positive output voltage.", 7 FBP (in) "The Noninverting Input to the Error Amplifier. Connect resistive divider tap here for negative output voltage", 8 VREF "Bandgap Voltage Reference. Internally set to 1.235V. Connect this pin to FBP if generating a positive output or to an external resistor divider if generating a negative voltage. This pin can provide up  to 100uA of current (See Datasheet)", 9 IADJ2 (in) "Second Current Sense Adjustment. Setting IADJ2 to be less than 625mV leads to adjustment of the sensed voltage of the second current sense amplifier linearly. If IADJ2 is tied to higher than 650mV, the default current sense (See Datasheet)", 10 IADJ1 (in) "First Current Sense Adjustment. Setting IADJ1 to be less than 625mV leads to adjustment of the sensed voltage of the first current sense amplifier linearly. If IADJ1 is tied to higher than 650mV, the default current sense (See Datasheet)", 11 ISP2 (in) "Second Current Sense (+) Pin. The noninverting input to the second current sense amplifier. Connect to ISN2 if not used.", 12 ISN2 (in) "Second Current Sense (-) Pin. The inverting input to the second current sense amplifier. Connect to ISP2 if not used.", 13 ISP1 (in) "First Current Sense (+) Pin. The noninverting input to the first current sense amplifier. Connect to ISN1 if not used.", 14 ISN1 (in) "First Current Sense (-) Pin. The inverting input to the first current sense amplifier. Connect to ISP1 if not used.", 15 GND (power) "Ground. Tie directly to local ground plane.", 16 SW (power) "Switch Pins. Collector of the internal NPN power switch. Connect the inductor and diode here and minimize the metal trace area connected to this pin to minimize electromagnetic interference.", 17 SW (power) "Switch Pins. Collector of the internal NPN power switch. Connect the inductor and diode here and minimize the metal trace area connected to this pin to minimize electromagnetic interference.", 18 NC "No Connect Pin. Okay to connect to ground or VIN, or to float.", 19 NC "No Connect Pin. Okay to connect to ground or VIN, or to float.", 20 NC "No Connect Pin. Okay to connect to ground or VIN, or to float.", 21 EP (power) "Power Ground. Must be soldered to PCB ground for electrical contact and rated thermal performance."

## LT3477IFE#TRPBF
designator U?
3 A, DC/DC Converter with Dual Rail-to-Rail Current Sense, 2.3 to 25 V Vin, 40 V Vout MAX, 20-pin SOP (FE-20-EPV-CB), -40 to 125 degC, Pb-Free, Tape and Reel; Manufacturer: Linear Technology; PartNumber: LT3477IFE#TRPBF; Topology: Buck, Boost, Buck-Boost; Vin Min(V): 2.3; DatasheetVersion: Rev. C; PackageVersion: Rev. I, 05/2011; PackageReference: FE-20; PackageDescription: 20-Pin Plastic TSSOP, Body 6.5 x 4.4 mm, Pitch 0.65 mm; Supplier 1: Digi-Key; Supplier Part Number 1: LT3477IFE#TRPBF-ND; Packing: Tape and Reel; RoHS: TRUE; Mounting Technology: Surface Mount; ComponentLink1Description: Manufacturer URL; ComponentLink1URL: http://www.linear.com/; ComponentLink2Description: Datasheet; ComponentLink2URL: http://cds.linear.com/docs/en/datasheet/3477fc.pdf; ComponentLink3Description: Package Specification; ComponentLink3URL: http://cds.linear.com/docs/en/packaging/05081663__J_FE20(CB).pdf
footprint LT-FE-20-EPV-CB_N (SOP, 20-Leads, Body 6.6x4.5mm, Pitch 0.65mm, Thermal Pad 3.86x2.74mm, IPC Medium Density)
footprint LT-FE-20-EPV-CB_L (SOP, 20-Leads, Body 6.6x4.5mm, Pitch 0.65mm, Thermal Pad 3.86x2.74mm, IPC High Density)
footprint LT-FE-20-EPV-CB_M (SOP, 20-Leads, Body 6.6x4.5mm, Pitch 0.65mm, Thermal Pad 3.86x2.74mm, IPC Low Density)
pins: 1 VIN (power) "Input Supply. Must be locally bypassed. Powers the internal control circuitry.", 2 RT "Timing Resistor Pin. Adjusts the switching frequency. Connect a 17.2k resistor between RT and GND for a 1MHz switching frequency. Do not leave this pin open. See Table 4 for additional RT values and switching frequencies.", 3 ~{SHDN} (in) "Shutdown. Tie to 2V or greater to enable the device. Tie below 0.3V to turn off the device", 4 SS (in) "Soft-Start. Place a soft-start capacitor here. Leave floating if not in use.", 5 VC "Compensation Pin for Error Amplifier. Connect a series RC from this pin to GND. Typical values are 1kohm and 4.7nF.", 6 FBN (in) "The Inverting Input to the Error Amplifier. Connect resistive divider tap here for positive output voltage.", 7 FBP (in) "The Noninverting Input to the Error Amplifier. Connect resistive divider tap here for negative output voltage", 8 VREF "Bandgap Voltage Reference. Internally set to 1.235V. Connect this pin to FBP if generating a positive output or to an external resistor divider if generating a negative voltage. This pin can provide up  to 100uA of current (See Datasheet)", 9 IADJ2 (in) "Second Current Sense Adjustment. Setting IADJ2 to be less than 625mV leads to adjustment of the sensed voltage of the second current sense amplifier linearly. If IADJ2 is tied to higher than 650mV, the default current sense (See Datasheet)", 10 IADJ1 (in) "First Current Sense Adjustment. Setting IADJ1 to be less than 625mV leads to adjustment of the sensed voltage of the first current sense amplifier linearly. If IADJ1 is tied to higher than 650mV, the default current sense (See Datasheet)", 11 ISP2 (in) "Second Current Sense (+) Pin. The noninverting input to the second current sense amplifier. Connect to ISN2 if not used.", 12 ISN2 (in) "Second Current Sense (-) Pin. The inverting input to the second current sense amplifier. Connect to ISP2 if not used.", 13 ISP1 (in) "First Current Sense (+) Pin. The noninverting input to the first current sense amplifier. Connect to ISN1 if not used.", 14 ISN1 (in) "First Current Sense (-) Pin. The inverting input to the first current sense amplifier. Connect to ISP1 if not used.", 15 GND (power) "Ground. Tie directly to local ground plane.", 16 SW (power) "Switch Pins. Collector of the internal NPN power switch. Connect the inductor and diode here and minimize the metal trace area connected to this pin to minimize electromagnetic interference.", 17 SW (power) "Switch Pins. Collector of the internal NPN power switch. Connect the inductor and diode here and minimize the metal trace area connected to this pin to minimize electromagnetic interference.", 18 NC "No Connect Pin. Okay to connect to ground or VIN, or to float.", 19 NC "No Connect Pin. Okay to connect to ground or VIN, or to float.", 20 NC "No Connect Pin. Okay to connect to ground or VIN, or to float.", 21 EP (power) "Power Ground. Must be soldered to PCB ground for electrical contact and rated thermal performance."